# Altium footprint library Diode_On_Semiconductor_BAT54CLT1G_eec_IPC_A.PcbLib: 1 footprints
Each footprint in its own frame and in the unit in brackets; x right, y up, seen from the top. Pads: shape width x height; smd on the part's side, far side on the other; paste and mask are expansions set on the pad; w line width, h text height; cw(c..) or ccw(c..) is an arc to the next point about the centre after c.
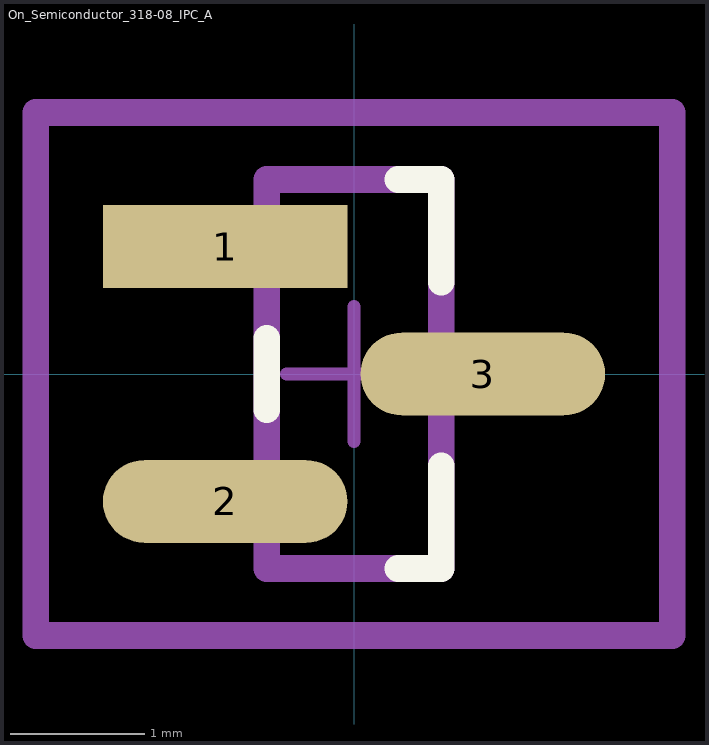
[diagram p0: the footprint, top view; thin cyan lines are the x and y axes]

## On_Semiconductor_318-08_IPC_A [mm]
pads (3):
  rect 1.824x0.618 smd paste+0 mask+0: 1(-0.96,0.95)
  rrect100% 1.824x0.618 smd paste+0 mask+0: 2(-0.96,-0.95) 3(0.96,0)
Top Overlay:
  lines w0.2: -0.65,-0.266 -0.65,0.266 ; 0.327,-1.45 0.65,-1.45 0.65,-0.684 ; 0.327,1.45 0.65,1.45 0.65,0.684
Mechanical 10:
  lines w0.2: -2.372,-1.95 2.372,-1.95 2.372,1.95 -2.372,1.95 -2.372,-1.95
  text ".Designator" at 0,0 h1
Mechanical 12:
  lines w0.2: -0.65,-1.45 0.65,-1.45 0.65,1.45 -0.65,1.45 -0.65,-1.45
Mechanical 15:
  lines w0.1: -0.5,0 0.5,0 ; 0,-0.5 0,0.5
  lines w0.2: -2.372,-1.95 2.372,-1.95 2.372,1.95 -2.372,1.95 -2.372,-1.95
3D body "Diode_On_Semiconductor_BAT54CLT1G_eec.STEP": height 0.25, standoff 0, extent -2.372,-1.95 2.372,1.95